# Altium integrated library DC-005.IntLib: 1 symbol
Pins are listed as number, name and electrical type; pins without a type are passive.

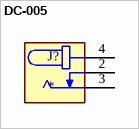
[diagram p0: symbol DC-005]

## DC-005
designator J?
DC Jack; MP: DC-005; Package: None; Availability: Unavailable; Value: *; Price: None
footprint NINIGI_DC-005
pins: 2 4, 3 5, 4 2